# Altium schematic symbol library TESTPOINT.Schlib: 1 symbol
Pins are listed as number, name and electrical type; pins without a type are passive.

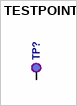
[diagram p0: symbol TESTPOINT]

## TESTPOINT
designator TP?  (value not drawn)  (no BOM)
pins: 1 TP